# Altium footprint library 2227_BoiteBruitage.PcbLib: 17 footprints (part 2 of 2)
Each footprint in its own frame and in the unit in brackets; x right, y up, seen from the top. Pads: shape width x height; smd on the part's side, far side on the other; paste and mask are expansions set on the pad; w line width, h text height; cw(c..) or ccw(c..) is an arc to the next point about the centre after c.
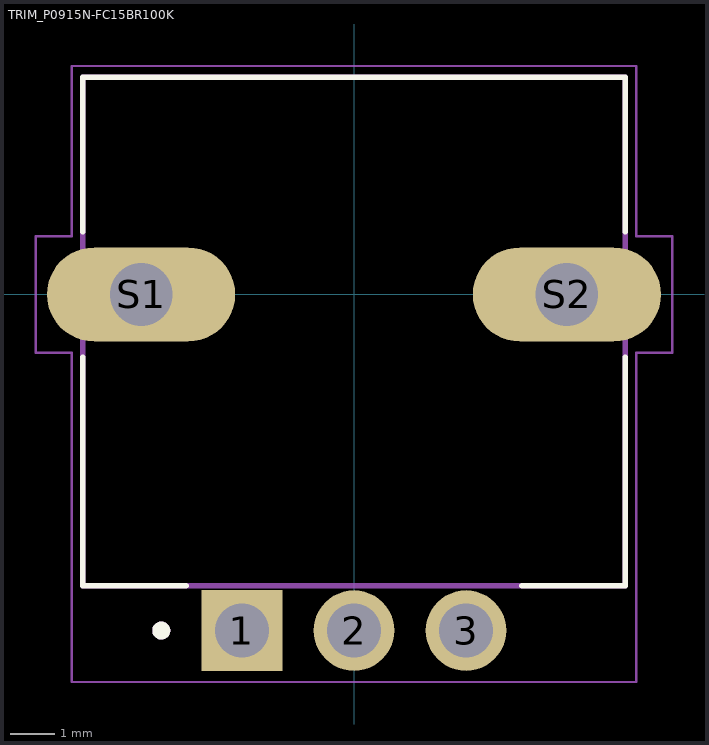
[diagram p1: the footprint, top view; thin cyan lines are the x and y axes]

## TRIM_P0915N-FC15BR100K [mm]
height 26
pads (5):
  rect 1.8x1.8 / inner round 1.8 / far side rect 1.8x1.8 hole 1.2: 1(-2.5,-7.5)
  round 1.8 hole 1.2: 2(0,-7.5) 3(2.5,-7.5)
  oval 4.2x2.1 hole 1.4 square: S1(-4.75,0) S2(4.75,0)
Top Overlay:
  circle w0.2: c-4.3,-7.5 r0.1
  lines w0.127: -6.05,-1.4 -6.05,-6.5 -3.75,-6.5 ; -6.05,1.4 -6.05,4.85 6.05,4.85 6.05,1.4 ; 3.75,-6.5 6.05,-6.5 6.05,-1.4
Mechanical 13:
  circle w0.2: c-4.3,-7.5 r0.1
  lines w0.127: -6.05,-6.5 6.05,-6.5 6.05,4.85 -6.05,4.85 -6.05,-6.5
Mechanical 15:
  lines w0.05: -7.1,-1.3 -6.3,-1.3 -6.3,-8.65 6.3,-8.65 6.3,-1.3 7.1,-1.3 7.1,1.3 6.3,1.3 6.3,5.1 -6.3,5.1 -6.3,1.3 -7.1,1.3 -7.1,-1.3
3D body "step_temp.STEP": height 26, standoff -4, extent -6.048,-6.25 6.05,6.25